# Altium footprint library EEG_PcbLib.PcbLib: 75 footprints (part 5 of 5)
Each footprint in its own frame and in the unit in brackets; x right, y up, seen from the top. Pads: shape width x height; smd on the part's side, far side on the other; paste and mask are expansions set on the pad; w line width, h text height; cw(c..) or ccw(c..) is an arc to the next point about the centre after c.
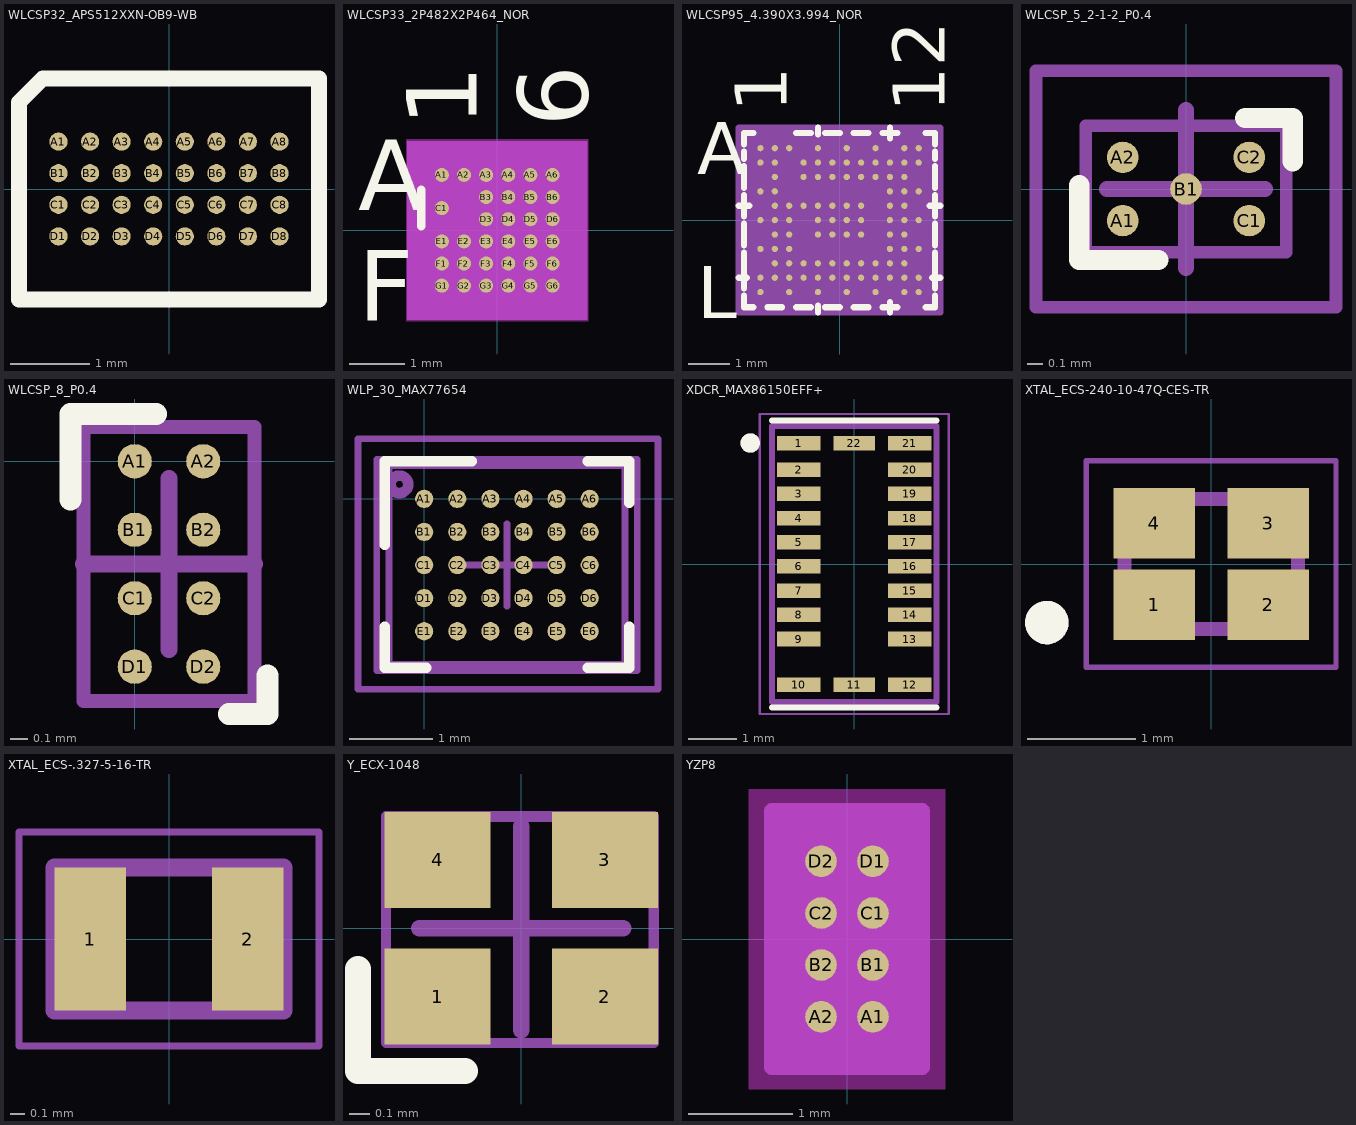
[diagram p4: the footprints below, top view; thin cyan lines are the x and y axes]

## WLCSP32_APS512XXN-OB9-WB [mm]
pads (32):
  round 0.23 smd mask-0.02: A1(-1.4,0.6) A2(-1,0.6) A3(-0.6,0.6) A4(-0.2,0.6) A5(0.2,0.6) A6(0.6,0.6) A7(1,0.6) A8(1.4,0.6) B1(-1.4,0.2) B2(-1,0.2) B3(-0.6,0.2) B4(-0.2,0.2) B5(0.2,0.2) B6(0.6,0.2) B7(1,0.2) B8(1.4,0.2) C1(-1.4,-0.2) C2(-1,-0.2) C3(-0.6,-0.2) C4(-0.2,-0.2) C5(0.2,-0.2) C6(0.6,-0.2) C7(1,-0.2) C8(1.4,-0.2) D1(-1.4,-0.6) D2(-1,-0.6) D3(-0.6,-0.6) D4(-0.2,-0.6) D5(0.2,-0.6) D6(0.6,-0.6) D7(1,-0.6) D8(1.4,-0.6)
Top Overlay:
  lines w0.2: -1.9,-1.4 -1.9,1.1 -1.6,1.4 1.9,1.4 1.9,-1.4 -1.9,-1.4
3D body: height 0.51, standoff 0.21, extent -1.85,-1.337 1.875,1.388

## WLCSP33_2P482X2P464_NOR [mil]
pads (33):
  round 10 smd paste+0 mask+0: A1(-39.37,39.38) A2(-23.62,39.38) A3(-7.87,39.38) A4(7.87,39.38) A5(23.62,39.38) A6(39.37,39.38) B3(-7.87,23.62) B4(7.87,23.62) B5(23.62,23.62) B6(39.37,23.62) C1(-39.37,15.75) D3(-7.87,7.88) D4(7.87,7.88) D5(23.62,7.88) D6(39.37,7.88) E1(-39.37,-7.88) E2(-23.62,-7.88) E3(-7.87,-7.88) E4(7.87,-7.88) E5(23.62,-7.88) E6(39.37,-7.88) F1(-39.37,-23.62) F2(-23.62,-23.62) F3(-7.87,-23.62) F4(7.87,-23.62) F5(23.62,-23.62) F6(39.37,-23.62) G1(-39.37,-39.38) G2(-23.62,-39.38) G3(-7.87,-39.38) G4(7.87,-39.38) G5(23.62,-39.38) G6(39.37,-39.38)
Top Overlay:
  lines w6: -54,2.78 -54,28.72
  text "A" at -99,14.38 h50
  text "F" at -99,-64.38 h50
  text "1" at -14.37,73.5 h50
  text "6" at 64.37,73.5 h50
Bottom Overlay:
  text "A" at -74,14.38 h50
  text "F" at -74,-64.38 h50
  text "1" at -64.37,73.5 h50
  text "6" at 14.37,73.5 h50
Keep-Out Layer:
  region: -64.74,-64.75 -64.74,64.75 64.74,64.75 64.74,-64.75
Mechanical 5:
  region: 64,-63.5 -64,-63.5 -64,63.5 64,63.5
Mechanical 13:
  lines w1: -49,40.62 -41.13,48.5 ; -49,-48.5 49,-48.5 49,48.5 -49,48.5 -49,-48.5
  text "A" at -99,14.38 h50
  text "F" at -99,-64.38 h50
  text "1" at -14.37,73.5 h50
  text "6" at 64.37,73.5 h50
Mechanical 15:
  region: 59,-58.5 -59,-58.5 -59,58.5 59,58.5
  lines w6: -59,-58.5 -59,58.5 59,58.5 59,-58.5 -59,-58.5

## WLCSP95_4.390X3.994_NOR [mil]
pads (95):
  round 6 smd paste+0 mask+0: A1(-75.79,68.9) A2(-62.01,68.9) A3(-48.23,68.9) A5(-20.67,68.9) A7(6.89,68.9) A9(34.45,68.9) A11(62.01,68.9) A12(75.79,68.9) B1(-75.79,55.12) B2(-62.01,55.12) B4(-34.45,55.12) B5(-20.67,55.12) B6(-6.89,55.12) B7(6.89,55.12) B8(20.67,55.12) B9(34.45,55.12) B10(48.23,55.12) B11(62.01,55.12) B12(75.79,55.12) C2(-62.01,41.34) C4(-34.45,41.34) C5(-20.67,41.34) C6(-6.89,41.34) C7(6.89,41.34) C8(20.67,41.34) C9(34.45,41.34) C10(48.23,41.34) C11(62.01,41.34) D1(-75.79,27.56) D2(-62.01,27.56) D10(48.23,27.56) D11(62.01,27.56) D12(75.79,27.56) E2(-62.01,13.78) E3(-48.23,13.78) E4(-34.45,13.78) E5(-20.67,13.78) E6(-6.89,13.78) E7(6.89,13.78) E8(20.67,13.78) E10(48.23,13.78) E11(62.01,13.78) F1(-75.79,0) F2(-62.01,0) F3(-48.23,0) F5(-20.67,0) F6(-6.89,0) F7(6.89,0) F8(20.67,0) F10(48.23,0) F11(62.01,0) F12(75.79,0) G2(-62.01,-13.78) G3(-48.23,-13.78) G5(-20.67,-13.78) G6(-6.89,-13.78) G7(6.89,-13.78) G8(20.67,-13.78) G10(48.23,-13.78) G11(62.01,-13.78) H1(-75.79,-27.56) H2(-62.01,-27.56) H3(-48.23,-27.56) H10(48.23,-27.56) H11(62.01,-27.56) H12(75.79,-27.56) J2(-62.01,-41.34) J3(-48.23,-41.34) J4(-34.45,-41.34) J5(-20.67,-41.34) J6(-6.89,-41.34) J7(6.89,-41.34) J8(20.67,-41.34) J9(34.45,-41.34) J10(48.23,-41.34) J11(62.01,-41.34) K1(-75.79,-55.12) K2(-62.01,-55.12) K3(-48.23,-55.12) K4(-34.45,-55.12) K5(-20.67,-55.12) K6(-6.89,-55.12) K7(6.89,-55.12) K8(20.67,-55.12) K9(34.45,-55.12) K10(48.23,-55.12) K11(62.01,-55.12) K12(75.79,-55.12) L1(-75.79,-68.9) L3(-48.23,-68.9) L5(-20.67,-68.9) L7(6.89,-68.9) L9(34.45,-68.9) L11(62.01,-68.9) L12(75.79,-68.9)
Top Overlay:
  lines w6: -96.5,-55.12 -88.89,-55.12 ; -96.5,13.78 -86.5,13.78 ; -91.5,-72.41 -91.5,-83.5 -82.57,-83.5 ; -91.5,-65.39 -91.5,-58.63 ; -91.5,-51.61 -91.5,-31.07 ; -91.5,-24.05 -91.5,-3.51 ; -91.5,3.51 -91.5,24.05 ; -91.5,31.07 -91.5,51.61 ; -91.5,58.63 -91.5,65.39 ; -91.5,72.41 -91.5,83.5 -82.57,83.5 ; -69.01,-83.5 -55.01,-83.5 ; -41.45,-83.5 -27.45,-83.5 ; -41.45,83.5 -27.45,83.5 ; -20.67,-88.5 -20.67,-82 ; -20.67,82 -20.67,88.5 ; -13.89,-83.5 0.11,-83.5 ; -13.89,83.5 0.11,83.5 ; 13.67,-83.5 27.67,-83.5 ; 13.67,83.5 27.67,83.5 ; 41.23,-83.5 55.23,-83.5 ; 41.23,83.5 55.23,83.5 ; 48.23,-88.5 48.23,-78.5 ; 48.23,78.5 48.23,88.5 ; 82.57,-83.5 91.5,-83.5 91.5,-72.41 ; 82.57,83.5 91.5,83.5 91.5,72.41 ; 86.5,13.78 96.5,13.78 ; 88.89,-55.12 96.5,-55.12 ; 91.5,-65.39 91.5,-58.63 ; 91.5,-51.61 91.5,-31.07 ; 91.5,-24.05 91.5,-3.51 ; 91.5,3.51 91.5,24.05 ; 91.5,31.07 91.5,51.61 ; 91.5,58.63 91.5,65.39
  text "A" at -136.5,43.9 h50
  text "L" at -136.5,-93.9 h50
  text "1" at -50.79,103.5 h50
  text "12" at 100.79,103.5 h50
Bottom Overlay:
  text "A" at -111.5,43.9 h50
  text "L" at -111.5,-93.9 h50
  text "1" at -100.79,103.5 h50
  text "12" at 50.79,103.5 h50
Mechanical 13:
  lines w1: -86.5,71.61 -79.61,78.5 ; -86.5,-78.5 86.5,-78.5 86.5,78.5 -86.5,78.5 -86.5,-78.5
  text "A" at -136.5,43.9 h50
  text "L" at -136.5,-93.9 h50
  text "1" at -50.79,103.5 h50
  text "12" at 100.79,103.5 h50
Mechanical 15:
  region: 96.5,-88.5 -96.5,-88.5 -96.5,88.5 96.5,88.5
  lines w6: -96.5,-88.5 -96.5,88.5 96.5,88.5 96.5,-88.5 -96.5,-88.5
3D body "WLCSP95_4390X3994_NOR.step": height 18.11, standoff 0, extent -86.5,-78.5 86.5,78.5

## WLCSP_5_2-1-2_P0.4 [mm]
pads (5):
  round 0.2 smd paste+0 mask+0: A1(-0.4,-0.2) A2(-0.4,0.2) B1(0,0) C1(0.4,-0.2) C2(0.4,0.2)
Top Overlay:
  lines w0.127: -0.676,0.025 -0.676,-0.45 -0.175,-0.45 ; 0.375,0.45 0.676,0.45 0.676,0.175
Top Assembly:
  lines w0.08: -0.95,-0.75 0.95,-0.75 0.95,0.75 -0.95,0.75 -0.95,-0.75
Top Courtyard:
  lines w0.08: -0.95,-0.75 0.95,-0.75 0.95,0.75 -0.95,0.75 -0.95,-0.75
Top Component Outline:
  lines w0.08: -0.634,-0.4 -0.634,0.4 0.634,0.4 0.634,-0.4 -0.634,-0.4
Top Component Center:
  lines w0.1: -0.5,0 0.5,0 ; 0,-0.5 0,0.5
3D body: height 0.57, standoff 0.2, extent -0.6,-0.375 0.6,0.375
3D body: height 0.23, standoff -0.03, extent -0.53,0.07 -0.27,0.33
3D body: height 0.23, standoff -0.03, extent -0.53,-0.33 -0.27,-0.07
3D body: height 0.23, standoff -0.03, extent -0.128,-0.131 0.132,0.129
3D body: height 0.23, standoff -0.03, extent 0.27,0.07 0.53,0.33
3D body: height 0.23, standoff -0.03, extent 0.27,-0.33 0.53,-0.07

## WLCSP_8_P0.4 [mm]
pads (8):
  round 0.2 smd mask+0: A1(0,0) A2(0.4,0) B1(0,-0.4) B2(0.4,-0.4) C1(0,-0.8) C2(0.4,-0.8) D1(0,-1.2) D2(0.4,-1.2)
Top Overlay:
  lines w0.127: -0.375,-0.225 -0.375,0.276 0.125,0.276 ; 0.55,-1.476 0.775,-1.476 0.775,-1.25
Top Assembly:
  lines w0.08: -0.3,-1.4 0.7,-1.4 0.7,0.2 -0.3,0.2 -0.3,-1.4
Top Component Outline:
  lines w0.08: -0.3,-1.4 0.7,-1.4 0.7,0.2 -0.3,0.2 -0.3,-1.4
Top Component Center:
  lines w0.1: -0.3,-0.6 0.7,-0.6 ; 0.2,-1.1 0.2,-0.1
3D body: height 0.23, standoff -0.03, extent 0.27,-0.93 0.53,-0.67
3D body: height 0.23, standoff -0.03, extent -0.13,-0.93 0.13,-0.67
3D body: height 0.23, standoff -0.03, extent -0.13,-0.53 0.13,-0.27
3D body: height 0.23, standoff -0.03, extent 0.27,-0.53 0.53,-0.27
3D body: height 0.41, standoff 0.06, extent -0.3,-1.4 0.7,0.2
3D body: height 0.23, standoff -0.03, extent -0.13,-0.13 0.13,0.13
3D body: height 0.23, standoff -0.03, extent 0.27,-0.13 0.53,0.13
3D body: height 0.23, standoff -0.03, extent -0.13,-1.33 0.13,-1.07
3D body: height 0.23, standoff -0.03, extent 0.27,-1.33 0.53,-1.07

## WLP_30_MAX77654 [mm]
pads (30):
  round 0.22 smd paste+0 mask+0: A1(0,0) A2(0.4,0) A3(0.8,0) A4(1.2,0) A5(1.6,0) A6(2,0) B1(0,-0.4) B2(0.4,-0.4) B3(0.8,-0.4) B4(1.2,-0.4) B5(1.6,-0.4) B6(2,-0.4) C1(0,-0.8) C2(0.4,-0.8) C3(0.8,-0.8) C4(1.2,-0.8) C5(1.6,-0.8) C6(2,-0.8) D1(0,-1.2) D2(0.4,-1.2) D3(0.8,-1.2) D4(1.2,-1.2) D5(1.6,-1.2) D6(2,-1.2) E1(0,-1.6) E2(0.4,-1.6) E3(0.8,-1.6) E4(1.2,-1.6) E5(1.6,-1.6) E6(2,-1.6)
Top Overlay:
  lines w0.127: -0.475,-0.553 -0.475,0.451 0.575,0.451 ; -0.474,-1.543 -0.474,-2.043 0.026,-2.043 ; 1.975,0.451 2.475,0.451 2.475,-0.049 ; 1.976,-2.043 2.476,-2.043 2.476,-1.543
Top Assembly:
  circle w0.127: c-0.3,0.175 r0.106
  lines w0.08: -0.575,-2.075 2.575,-2.075 2.575,0.475 -0.575,0.475 -0.575,-2.075
Top Courtyard:
  lines w0.08: -0.8,-2.3 2.825,-2.3 2.825,0.725 -0.8,0.725 -0.8,-2.3
Top Component Outline:
  lines w0.08: -0.426,-1.997 2.426,-1.997 ; -0.426,-1.997 -0.426,0.402 2.426,0.402 2.426,-1.997
Top Component Center:
  lines w0.08: 0.5,-0.8 1.5,-0.8 ; 1,-1.3 1,-0.3
3D body "21-100307_N302C21_MXM.step": height 0.51, standoff 0, extent -0.397,-1.968 2.397,0.368

## XDCR_MAX86150EFF+ [mm]
pads (22):
  rect 0.9x0.3 smd: 1(-1.15,2.5) 2(-1.15,1.95) 3(-1.15,1.45) 4(-1.15,0.95) 5(-1.15,0.45) 6(-1.15,-0.05) 7(-1.15,-0.55) 8(-1.15,-1.05) 9(-1.15,-1.55) 10(-1.15,-2.5) 12(1.15,-2.5) 13(1.15,-1.55) 14(1.15,-1.05) 15(1.15,-0.55) 16(1.15,-0.05) 17(1.15,0.45) 18(1.15,0.95) 19(1.15,1.45) 20(1.15,1.95) 21(1.15,2.5)
  rect 0.85x0.3 smd: 11(0,-2.5) 22(0,2.5)
Top Overlay:
  circle w0.2: c-2.15,2.5 r0.1
  lines w0.127: -1.7,-2.964 1.7,-2.964 ; -1.7,2.964 1.7,2.964
Mechanical 13:
  circle w0.2: c-2.15,2.5 r0.1
  lines w0.127: -1.7,-2.85 1.7,-2.85 1.7,2.85 -1.7,2.85 -1.7,-2.85
Mechanical 15:
  lines w0.05: -1.95,-3.1 1.95,-3.1 1.95,3.1 -1.95,3.1 -1.95,-3.1
3D body "MAX86150EFF+T.STEP": height 1.41, standoff 0.01, extent -1.65,-2.8 1.65,2.8

## XTAL_ECS-240-10-47Q-CES-TR [mm]
pads (4):
  rect 0.75x0.65 smd: 1(-0.525,-0.375) 2(0.525,-0.375) 3(0.525,0.375) 4(-0.525,0.375)
Top Overlay:
  circle w0.2: c-1.515,-0.54 r0.1
Mechanical 13:
  circle w0.2: c-1.515,-0.54 r0.1
  lines w0.127: -0.8,-0.6 -0.8,0.6 0.8,0.6 0.8,-0.6 -0.8,-0.6
Mechanical 15:
  lines w0.05: -1.15,-0.95 -1.15,0.95 1.15,0.95 1.15,-0.95 -1.15,-0.95
3D body "ECS-240-10-47Q-CES-TR--3DModel-STEP-269445.STEP": height 0.41, standoff 0.01, extent -0.8,-0.6 0.8,0.6

## XTAL_ECS-.327-5-16-TR [mm]
pads (2):
  rect 0.5x1 smd: 1(-0.55,0) 2(0.55,0)
Mechanical 13:
  lines w0.127: -0.8,-0.5 -0.8,0.5 0.8,0.5 0.8,-0.5 -0.8,-0.5
Mechanical 15:
  lines w0.05: -1.05,-0.75 -1.05,0.75 1.05,0.75 1.05,-0.75 -1.05,-0.75
3D body "ECS-.327-9-16-TR.STEP": height 0.51, standoff 0.01, extent -0.8,-0.5 0.8,0.5

## Y_ECX-1048 [mm]
pads (4):
  rect 0.52x0.47 smd: 1(-0.41,-0.335) 2(0.41,-0.335) 3(0.41,0.335) 4(-0.41,0.335)
Top Overlay:
  lines w0.127: -0.8,-0.2 -0.8,-0.7 -0.275,-0.7
Top Courtyard:
  lines w0.05: -0.663,-0.563 -0.663,0.55 0.65,0.55 0.65,-0.563 -0.663,-0.563
Top Component Outline:
  lines w0.05: -0.663,-0.563 -0.663,0.545 0.649,0.545 0.649,-0.563 -0.663,-0.563
Top Component Center:
  lines w0.08: -0.5,0 0.5,0 ; 0,-0.5 0,0.5
3D body "Y_ECX-1048.STEP": height 0.3, standoff -0.02, extent -0.6,-0.5 0.6,0.5

## YZP8 [mm]
pads (8):
  round 0.305 smd paste+0 mask+0: A1(0.25,-0.75) A2(-0.25,-0.75) B1(0.25,-0.25) B2(-0.25,-0.25) C1(0.25,0.25) C2(-0.25,0.25) D1(0.25,0.75) D2(-0.25,0.75)
Keep-Out Layer:
  region: -0.944,-1.445 -0.944,1.445 0.944,1.445 0.944,-1.445
Mechanical 13:
  lines w0.025: 0.22,-0.978 0.47,-0.728 ; -0.47,-0.978 0.47,-0.978 0.47,0.978 -0.47,0.978 -0.47,-0.978
  text "D" at 1.105,0.115 h1.27
  text "A" at 1.105,-1.385 h1.27
  text "2" at 0.385,-2.248 h1.27
  text "1" at 0.885,-2.248 h1.27
Mechanical 15:
  region: 0.724,-1.232 -0.724,-1.232 -0.724,1.232 0.724,1.232
  lines w0.152: -0.724,-1.232 -0.724,1.232 0.724,1.232 0.724,-1.232 -0.724,-1.232
3D body "YZP8.step": height 0.51, standoff 0, extent -0.47,-0.978 0.47,0.978